# Altium footprint library wson_8_p50_200x200x80_l30x25_t160x90.PcbLib: 1 footprints
Each footprint in its own frame and in the unit in brackets; x right, y up, seen from the top. Pads: shape width x height; smd on the part's side, far side on the other; paste and mask are expansions set on the pad; w line width, h text height; cw(c..) or ccw(c..) is an arc to the next point about the centre after c.
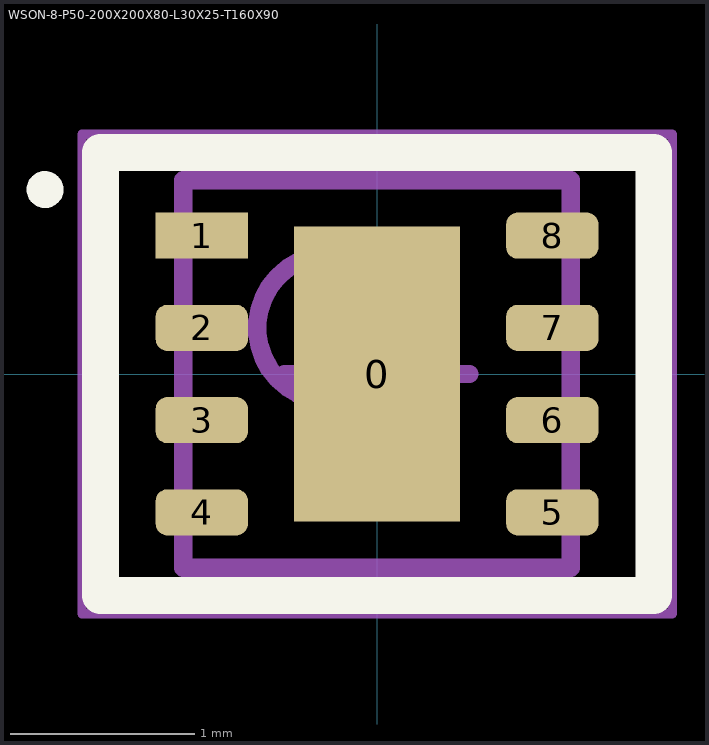
[diagram p0: the footprint, top view; thin cyan lines are the x and y axes]

## WSON-8-P50-200X200X80-L30X25-T160X90 [mm] "WSON, 8-Leads, Body 2,00x2,00mm, Pitch 0,50mm, Thermal Pad 1,60x0,90mm, IPC Medium Density"
height 0.8
pads (9):
  rect 0.9x1.6 smd: 0(0,0)
  rect 0.5x0.25 smd: 1(-0.95,0.75)
  rrect50% 0.5x0.25 smd: 2(-0.95,0.25) 3(-0.95,-0.25) 4(-0.95,-0.75) 5(0.95,-0.75) 6(0.95,-0.25) 7(0.95,0.25) 8(0.95,0.75)
Top Overlay:
  circle w0.1: c-1.8,1 r0.05
  lines w0.2: -1.5,-1.2 1.1,-1.2 1.5,-1.2 1.5,1.2 1.1,1.2 -1.05,1.2 -1.5,1.2 -1.5,-1.2
Top Comment:
  text ".Comment" at 1,1.6 h1.2
Top Designator:
  text ".Designator" at -0.5,1.6 h1.2
Top Component Outline:
  circle w0.1: c-0.25,0.25 r0.4
  lines w0.1: -1.05,-1.05 1.05,-1.05 1.05,1.05 -1.05,1.05 -1.05,-1.05
Top Courtyard (Mech15):
  lines w0.05: -1.6,-1.3 1.6,-1.3 1.6,1.3 -1.6,1.3 -1.6,-1.3
  lines w0.1: -0.5,0 0.5,0 ; 0,-0.5 0,0.5
3D body "WSON-8.STEP": height 0.8, standoff 0, extent -1,-1 1,1